# EAGLE library part WM6698TR-ND_MICROSD (library KevinKuwata1)
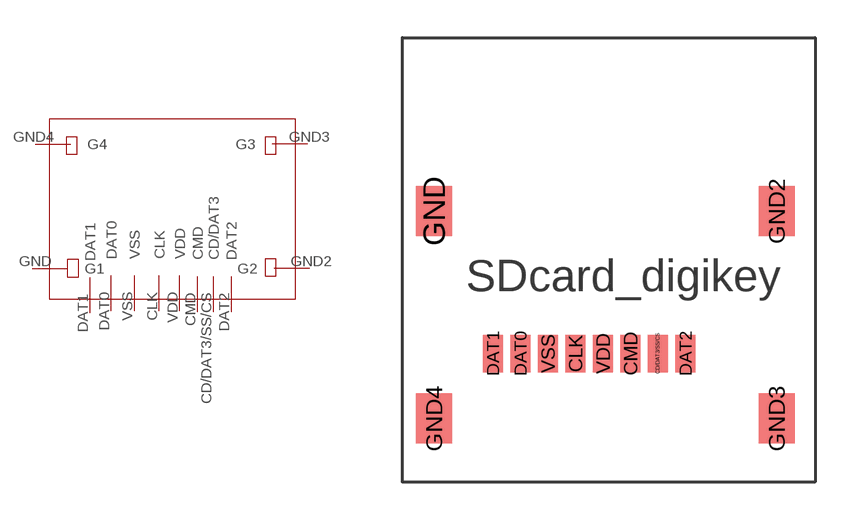
[diagram p2: symbol with the pads of MICROSD2; footprint MICROSD2]

Designator prefix -

## WM6698TR-ND_MICROSD  [MICROSD2]
CD/DAT3/SS/CS  CD/DAT3
CLK  CLK
CMD  CMD
DAT0  DAT0
DAT1  DAT1
DAT2  DAT2
GND  G1
GND2  G2
GND3  G3
GND4  G4
VDD  VDD
VSS  VSS

## Footprint MICROSD2 (pad centres in mm)
smd 0.8 x 1.5: CD/DAT3/SS/CS 8.95,2.6; CLK 5.65,2.6; CMD 7.85,2.6; DAT0 3.45,2.6; DAT1 2.35,2.6; DAT2 10.05,2.6; VDD 6.75,2.6; VSS 4.55,2.6
smd 1.45 x 2: GND 0,8.3; GND2 13.7,8.3; GND3 13.7,0; GND4 0,0